# EAGLE library part 1462037-1 (library Relays)
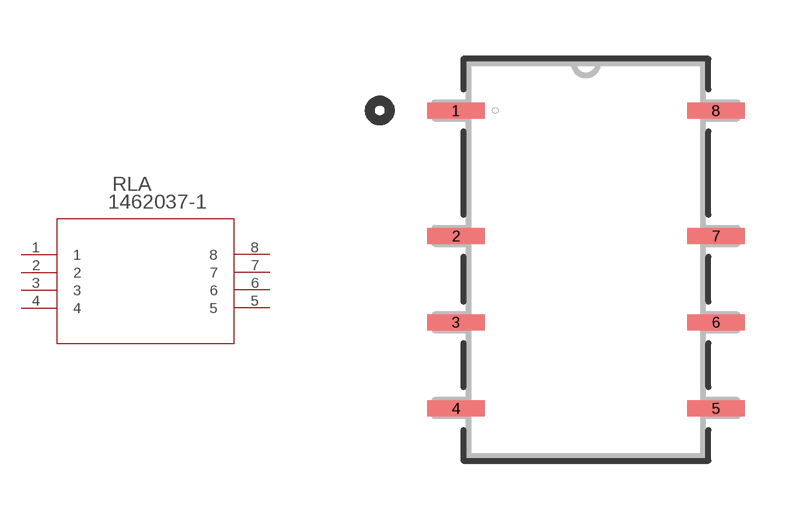
[diagram p67: symbol with the pads of RELAY8_1462037-1; footprint RELAY8_1462037-1]

Designator prefix RLA

## 1462037-1 (BUILT_BY: EMA_UL_Team; CATEGORY: Signal Relays; CONTACT_ARRANGEMENT: 2 Form C (CO); COPYRIGHT: Copyright (C) 2016 Accelerated Designs. All rights reserved; DESCRIPTION: IM01GR=IM Relay 140 mW 3 V; MANUFACTURER_PART_NUMBER: 1462037-1; MAXIMUM_SWITCHING_CURRENT: -; MAXIMUM_SWITCHING_VOLTAGE: -; PART_STATUS: active; PRODUCT_TYPE: Relay; RELAY_TYPE: IM Relay; SERIES: Axicom IM; TE_PART_NUMBER: IM01GR (1462037-1); VENDOR: TE Connectivity)  [RELAY8_1462037-1]
1  1  pas
2  2  pas
3  3  pas
4  4  pas
5  5  pas
6  6  pas
7  7  pas
8  8  pas

## Footprint RELAY8_1462037-1 (pad centres in mm)
smd 1.473 x 0.406: 1 -3.315,3.804; 2 -3.315,0.604; 3 -3.315,-1.596; 4 -3.315,-3.796; 5 3.315,-3.796; 6 3.315,-1.596; 7 3.315,0.604; 8 3.315,3.804